# EAGLE library part DF19G-8P-1H(54) (library Sala-Eng-Hirose)
Hirose DF19G-8P-1H(54) Surface Mount 8 pin connector Right Angle 1mm pitch
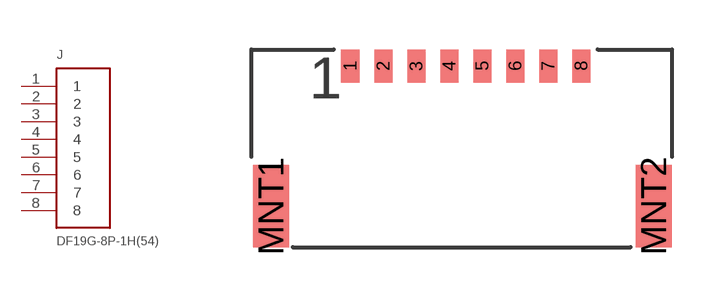
[diagram p5: symbol with the pads of DF19G-8P-1H(54); footprint DF19G-8P-1H(54)]

Designator prefix J

## DF19G-8P-1H(54)  [DF19G-8P-1H(54)]
1  1
2  2
3  3
4  4
5  5
6  6
7  7
8  8

## Footprint DF19G-8P-1H(54) (pad centres in mm)
Hirose DF19G-8P-1H(54) Surface Mount 8 pin connector Right Angle 1mm pitch
smd 0.55 x 1: 1 0,0; 2 1,0; 3 2,0; 4 3,0; 5 4,0; 6 5,0; 7 6,0; 8 7,0
smd 1.1 x 2.5: MNT1 -2.4,-4.25; MNT2 9.2,-4.25